# Altium schematic symbol library AT86RF231.Schlib: 1 symbol
Pins are listed as number, name and electrical type; pins without a type are passive.

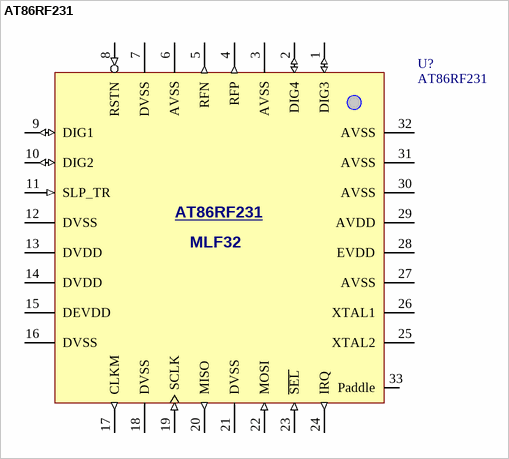
[diagram p0: symbol AT86RF231]

## AT86RF231
designator U?
802.15.4 2.4GHz Radio Transceiver
footprint MLF-32 (MLF-32 solder foot print)
pins: 1 DIG3 (io), 2 DIG4 (io), 3 AVSS (power), 4 RFP (out), 5 RFN (out), 6 AVSS (power), 7 DVSS (power), 8 RSTN (in), 9 DIG1 (io), 10 DIG2 (io), 11 SLP_TR (in), 12 DVSS (power), 13 DVDD (power), 14 DVDD (power), 15 DEVDD (power), 16 DVSS (power), 17 CLKM (out), 18 DVSS (power), 19 SCLK (in), 20 MISO (out), 21 DVSS (power), 22 MOSI (in), 23 ~{SEL} (in), 24 IRQ (out), 25 XTAL2, 26 XTAL1, 27 AVSS (power), 28 EVDD (power), 29 AVDD (power), 30 AVSS (power), 31 AVSS (power), 32 AVSS (power), 33 Paddle "not connected"
text: MLF32